# Altium footprint library _ROBOT.PcbLib: 77 footprints (part 3 of 5)
Each footprint in its own frame and in the unit in brackets; x right, y up, seen from the top. Pads: shape width x height; smd on the part's side, far side on the other; paste and mask are expansions set on the pad; w line width, h text height; cw(c..) or ccw(c..) is an arc to the next point about the centre after c.
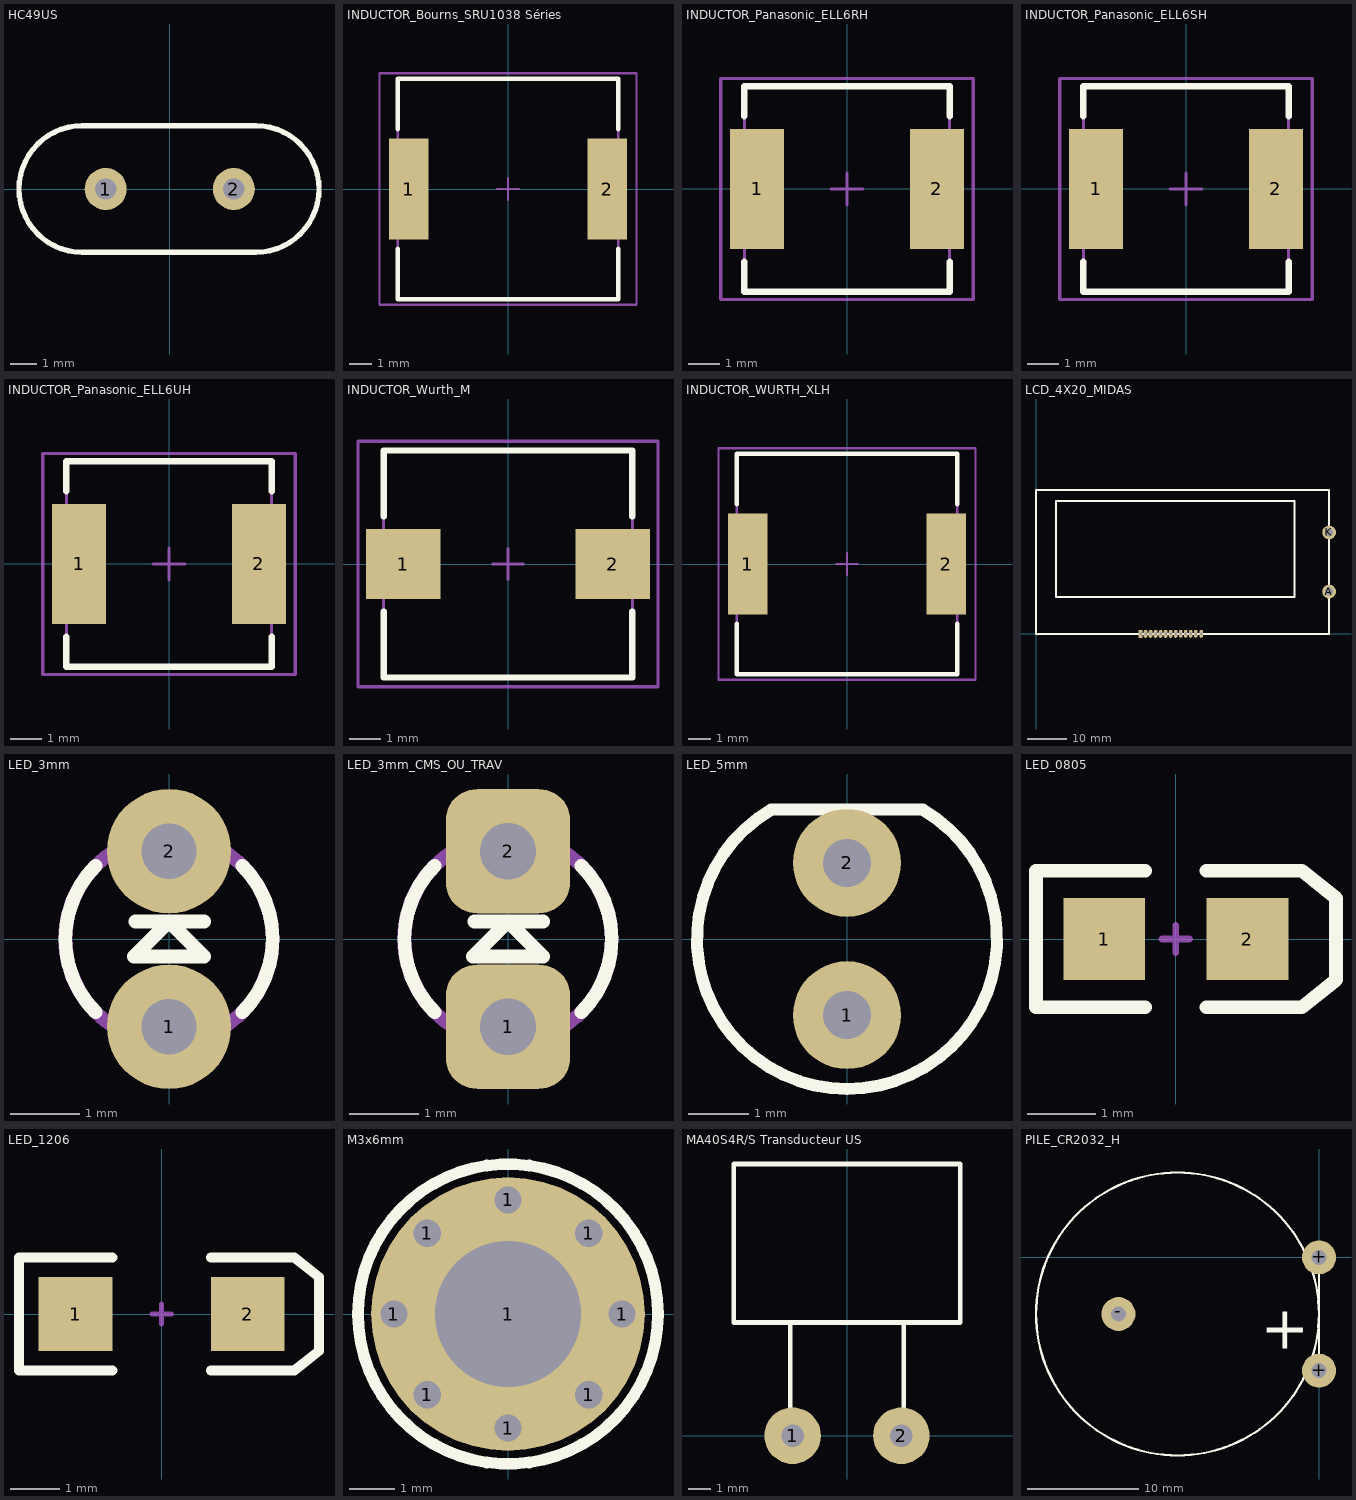
[diagram p2: the footprints below, top view; thin cyan lines are the x and y axes]

## HC49US [mil] "Quartz Crystal, HC49 Bas profil, Pas 4,88mm"
height 137.8
pads (2):
  round 63 hole 32: 1(-96.06,0) 2(96.06,0)
Top Overlay:
  lines w8: -226.06,0 ccw(c-131.06,0) -131.06,-95 128.94,-95 ccw(c128.94,0) 223.94,0 ccw(c128.94,0) 128.94,95 -131.06,95 ccw(c-131.06,0) -226.06,0
3D body: height 142.73, standoff -77.74, extent -220.99,-91.96 218.87,92

## INDUCTOR_Bourns_SRU1038 Séries [mm] "Inductor, 2-Leads, Body 10x10mm, IPC Medium Density"
height 3.8
pads (2):
  rect 1.8x4.6 smd: 1(-4.5,0) 2(4.5,0)
Top Overlay:
  lines w0.2: -5,-2.7 -5,-5 5,-5 5,-2.7 ; -5,2.7 -5,5 5,5 5,2.7
Mechanical 13:
  lines w0.1: -5,-5 -5,5 5,5 5,-5 -5,-5
Mechanical 15:
  lines w0.1: -0.5,0 0.5,0 ; 0,-0.5 0,0.5 ; -5.825,-5.25 -5.825,5.25 5.825,5.25 5.825,-5.25 -5.825,-5.25
3D body: height 3.8, standoff -0.01, extent -5,-5.105 5.21,4.895
3D body: height 3.8, standoff 0, extent -5,-5 5,5

## INDUCTOR_Panasonic_ELL6RH [mm] "nductor, 2-Leads, Body 6x6mm, IPC Medium Density"
height 2.8
pads (2):
  rect 1.7x3.8 smd: 1(-2.85,0) 2(2.85,0)
Top Overlay:
  lines w0.2: -3.25,-2.3 -3.25,-3.25 3.25,-3.25 3.25,-2.3 ; -3.25,2.3 -3.25,3.25 3.25,3.25 3.25,2.3
Mechanical 13:
  lines w0.1: -3.25,-3.25 -3.25,3.25 3.25,3.25 3.25,-3.25 -3.25,-3.25
Mechanical 15:
  lines w0.1: -0.5,0 0.5,0 ; 0,-0.5 0,0.5 ; -4,-3.5 -4,3.5 4,3.5 4,-3.5 -4,-3.5
3D body: height 2.8, standoff 0, extent -3.25,-3.25 3.25,3.25

## INDUCTOR_Panasonic_ELL6SH [mm] "nductor, 2-Leads, Body 6x6mm, IPC Medium Density"
height 3.3
pads (2):
  rect 1.7x3.8 smd: 1(-2.85,0) 2(2.85,0)
Top Overlay:
  lines w0.2: -3.25,-2.3 -3.25,-3.25 3.25,-3.25 3.25,-2.3 ; -3.25,2.3 -3.25,3.25 3.25,3.25 3.25,2.3
Mechanical 13:
  lines w0.1: -3.25,-3.25 -3.25,3.25 3.25,3.25 3.25,-3.25 -3.25,-3.25
Mechanical 15:
  lines w0.1: -0.5,0 0.5,0 ; 0,-0.5 0,0.5 ; -4,-3.5 -4,3.5 4,3.5 4,-3.5 -4,-3.5
3D body: height 3.3, standoff 0, extent -3.25,-3.25 3.25,3.25

## INDUCTOR_Panasonic_ELL6UH [mm] "nductor, 2-Leads, Body 6x6mm, IPC Medium Density"
height 5
pads (2):
  rect 1.7x3.8 smd: 1(-2.85,0) 2(2.85,0)
Top Overlay:
  lines w0.2: -3.25,-2.3 -3.25,-3.25 3.25,-3.25 3.25,-2.3 ; -3.25,2.3 -3.25,3.25 3.25,3.25 3.25,2.3
Mechanical 13:
  lines w0.1: -3.25,-3.25 3.25,-3.25 3.25,3.25 -3.25,3.25 -3.25,-3.25
Mechanical 15:
  lines w0.1: -0.5,0 0.5,0 ; 0,-0.5 0,0.5 ; -4,-3.5 4,-3.5 4,3.5 -4,3.5 -4,-3.5
3D body: height 5, standoff 0, extent -3.25,-3.25 3.25,3.25

## INDUCTOR_Wurth_M [mm] "Inductor, 2-Leads, Body 8,0x7,3mm, IPC Medium Density"
height 4.5
pads (2):
  rect 2.4x2.25 smd: 1(-3.375,0) 2(3.375,0)
Top Overlay:
  lines w0.2: -4,-1.525 -4,-3.65 4,-3.65 4,-1.525 ; -4,1.525 -4,3.65 4,3.65 4,1.525
Mechanical 13:
  lines w0.1: -4,-3.65 4,-3.65 4,3.65 -4,3.65 -4,-3.65
Mechanical 15:
  lines w0.1: -0.5,0 0.5,0 ; 0,-0.5 0,0.5 ; -4.825,-3.95 4.825,-3.95 4.825,3.95 -4.825,3.95 -4.825,-3.95
3D body: height 4.5, standoff 0, extent -4,-3.65 4,3.65

## INDUCTOR_WURTH_XLH [mm] "Inductor, 2-Leads, Body 10x10mm, IPC Medium Density"
height 3.8
pads (2):
  rect 1.8x4.6 smd: 1(-4.5,0) 2(4.5,0)
Top Overlay:
  lines w0.2: -5,-2.7 -5,-5 5,-5 5,-2.7 ; -5,2.7 -5,5 5,5 5,2.7
Mechanical 13:
  lines w0.1: -5,-5 5,-5 5,5 -5,5 -5,-5
Mechanical 15:
  lines w0.1: -0.5,0 0.5,0 ; 0,-0.5 0,0.5 ; -5.825,-5.25 5.825,-5.25 5.825,5.25 -5.825,5.25 -5.825,-5.25
3D body: height 3.8, standoff -0.01, extent -5,-5.105 5.21,4.895
3D body: height 3.8, standoff 0, extent -5,-5 5,5

## LCD_4X20_MIDAS [mm] "MCCOG42005A6W-BNMLWI"
height 6
pads (15):
  rect 1x2 hole 0.6: 1(26.53,0)
  oval 1x2 hole 0.6: 2(27.8,0) 3(29.07,0) 4(30.34,0) 5(31.61,0) 6(32.88,0) 7(34.15,0) 8(35.42,0) 9(36.69,0) 10(37.96,0) 11(39.23,0) 12(40.5,0) 13(41.884,0)
  round 3.5 hole 2: A(74.3,10.7) K(74.3,25.7)
Top Overlay:
  lines w0.5: 0,0 74.3,0 74.3,36.4 0,36.4 0,0 ; 5.08,9.286 5.08,33.67 65.532,33.67 65.532,9.286 5.08,9.286
3D body: height 5.93, standoff -1.73, extent 0.061,-0.762 74.361,35.638

## LED_3mm [mm] "LED 3mm; 2 Leads"
height 8
pads (2):
  round 1.8 hole 0.8: 1(0,-1.27) 2(0,1.27)
Top Overlay:
  lines w0.2: -1.061,-1.061 cw(c0,0) -1.061,1.061 ; -0.484,0.254 0.508,0.254 ; 1.061,-1.061 ccw(c0,0) 1.061,1.061 ; -0.508,-0.254 0.508,-0.254 0,0.254 -0.508,-0.254
Mechanical 13:
  circle w0.2: c0,0 r1.5
3D body: height 5.51, standoff -2.49, extent -1.638,-1.65 1.651,1.65
3D body: height 5, standoff 0, extent -1.507,-1.507 1.507,1.507

## LED_3mm_CMS_OU_TRAV [mm] "LED 3mm; 2 Leads"
height 8
pads (2):
  rrect50% 1.8x1.8 hole 0.813: 1(0,-1.27) 2(0,1.27)
Top Overlay:
  lines w0.2: -1.061,-1.061 cw(c0,0) -1.061,1.061 ; -0.484,0.254 0.508,0.254 ; 1.061,-1.061 ccw(c0,0) 1.061,1.061 ; -0.508,-0.254 0,0.254 0.508,-0.254 -0.508,-0.254
Mechanical 13:
  circle w0.2: c0,0 r1.5
3D body: height 5.51, standoff -2.49, extent -1.638,-1.65 1.651,1.65
3D body: height 5, standoff 0, extent -1.507,-1.507 1.507,1.507

## LED_5mm [mm] "LED 5mm; 2 Leads"
height 8
pads (2):
  round 1.8 hole 0.8: 1(0,-1.27) 2(0,1.27)
Top Overlay:
  lines w0.2: -1.27,2.159 1.27,2.159 ; -1.268,2.155 ccw(c0,0) 1.268,2.155
3D body: height 8, standoff 0, extent -2.512,-2.512 2.512,2.512
3D body: height 12.31, standoff -2.49, extent -3.022,-2.989 2.997,2.431

## LED_0805 [mm] "SM LED; 2 Flat Leads"
height 1.2
pads (2):
  rect 1.2x1.2 smd: 1(-1.05,0) 2(1.05,0)
Top Overlay:
  lines w0.2: -0.45,-1 -2.05,-1 -2.05,1 -0.45,1 ; 0.45,-1 1.85,-1 2.35,-0.6 2.35,0.6 1.85,1 0.45,1
Mechanical 1:
  lines w0.1: -0.2,0 0.2,0 ; 0,-0.2 0,0.2
3D body: height 1.2, standoff 0, extent -1.054,-0.635 1.054,0.635
3D body: height 0.85, standoff 0.01, extent -1.006,-0.457 1.057,0.449

## LED_1206 [mm] "SM LED; 2 Flat Leads"
height 1.2
pads (2):
  rect 1.5x1.5 smd: 1(-1.75,0) 2(1.75,0)
Top Overlay:
  lines w0.2: -1,-1.15 -2.9,-1.15 -2.9,1.15 -1,1.15 ; 1,-1.15 2.7,-1.15 3.2,-0.75 3.2,0.75 2.7,1.15 1,1.15
Mechanical 1:
  lines w0.1: -0.2,0 0.2,0 ; 0,-0.2 0,0.2
3D body: height 1.36, standoff 0.01, extent -1.625,-0.725 1.675,0.725

## M3x6mm [mm] "Vis M3 X 6mm _TORX_Tête 6mm"
pads (9):
  round 0.8 hole 0.6: 1(-2.5,0) 1(-1.768,-1.768) 1(-1.768,1.768) 1(0,-2.5) 1(0,2.5) 1(1.768,-1.768) 1(1.768,1.768) 1(2.5,0)
  round 6 hole 3.2: 1(0,0)
Top Overlay:
  circle w0.254: c0,0 r3.288
Mechanical 15:
  lines w0.2: -2.1,0 2.1,0 ; 0,-2.1 0,2.1
3D body: height 1.67, standoff -5.98, extent -2.845,-2.85 2.855,2.85

## MA40S4R/S Transducteur US [mm]
height 0.01
pads (2):
  round 2.54 hole 1.016: 1(-2.44,0) 2(2.44,0)
Top Overlay:
  lines w0.203: -2.54,-1.016 -2.54,5.08 ; 2.54,-1.016 2.54,5.08 ; -5.08,5.08 5.08,5.08 5.08,12.192 -5.08,12.192 -5.08,5.08

## PILE_CR2032_H [mil] "Pile Lithium; CR2032; Horizontal; Fix:18mm/10.16mm"
height 196.85
pads (3):
  round 120 hole 52: +(0,-400) +(0,0) -(-708.66,-200)
Top Overlay:
  lines w8: 0,-350 0,-50 ; -1000,-200 ccw(c-500,-200) -500,-700 ccw(c-500,-200) 0,-200 ccw(c-500,-200) -500,300 ccw(c-500,-200) -1000,-200
  text "+" at -205.55,-322.5 h150
Mechanical 1:
  text "+" at -205.55,-322.5 h150